# Altium schematic symbol library SparkFun-Resistors.SCHLIB: 269 symbols (part 3 of 3)
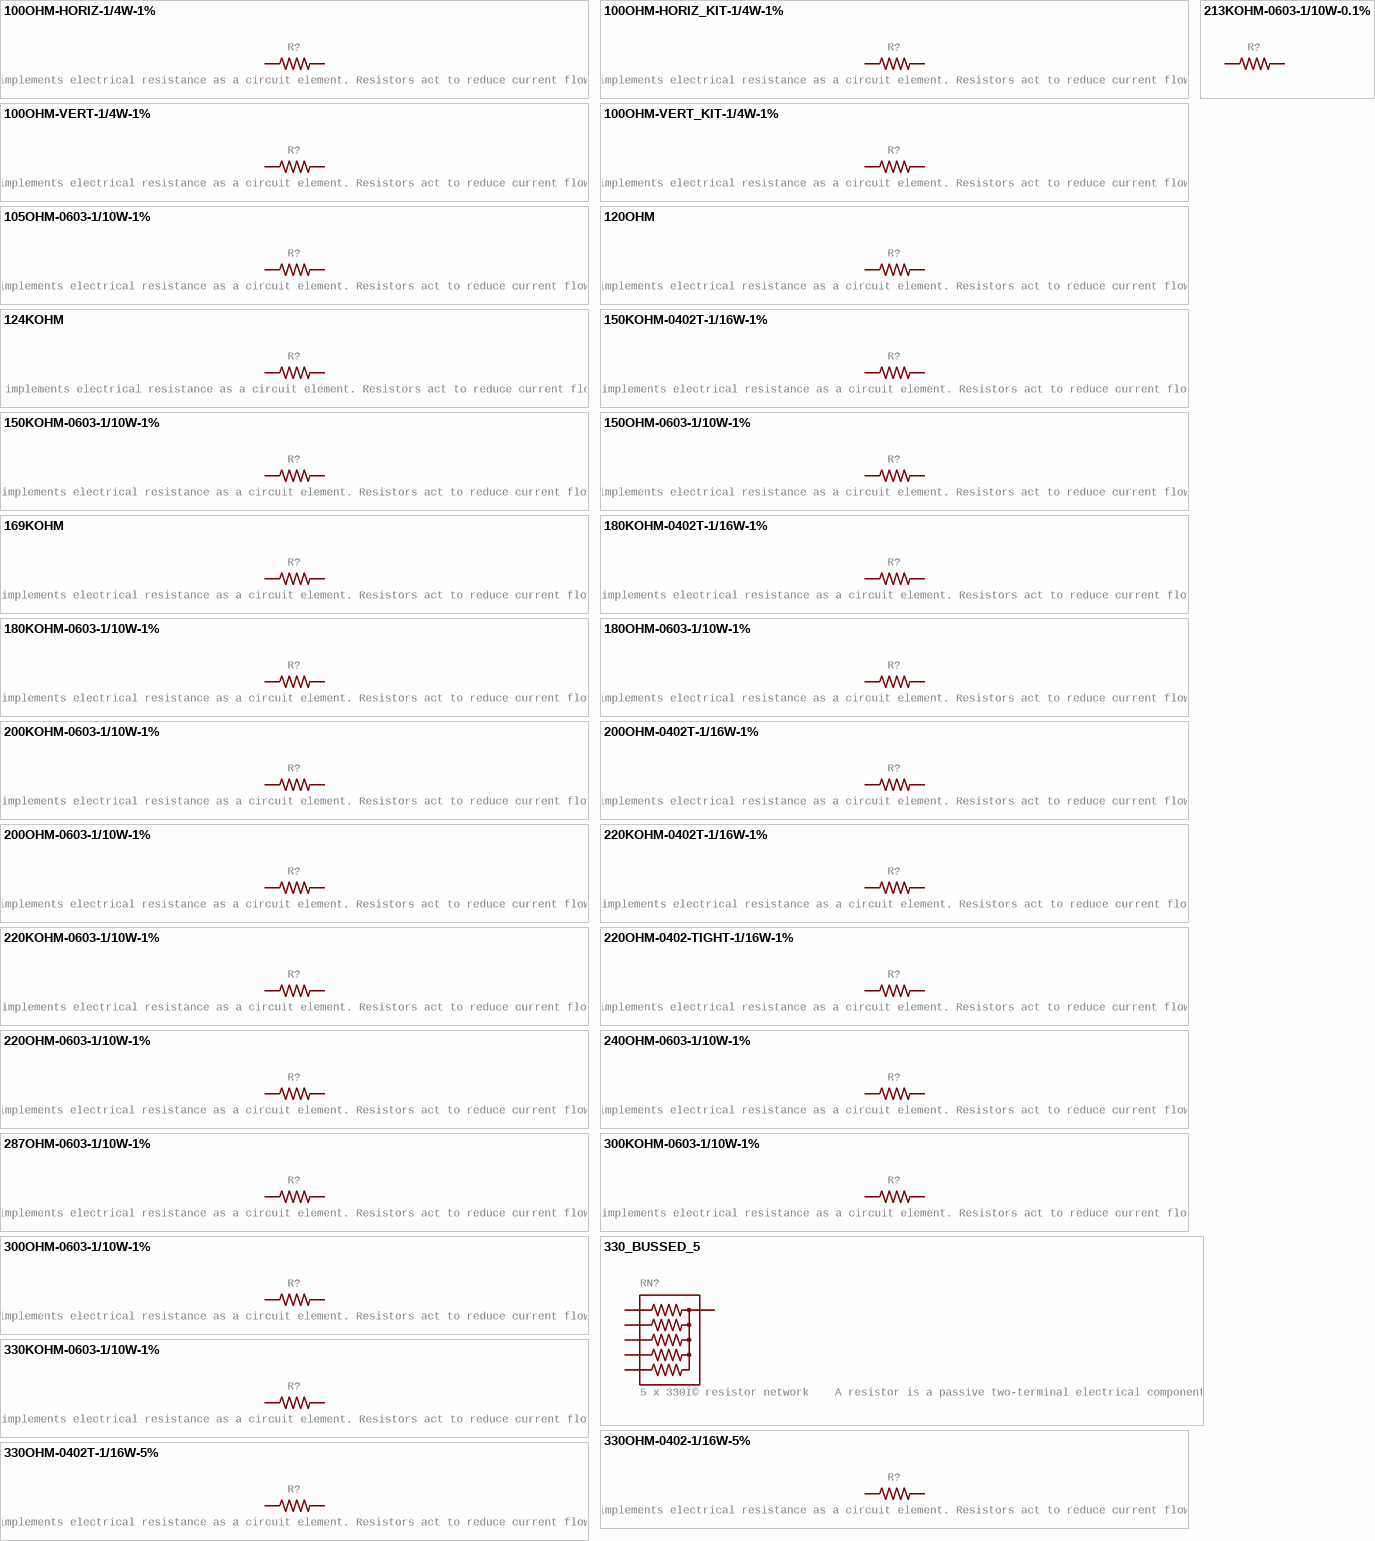
[diagram p12: symbols 100OHM-HORIZ-1/4W-1% to 330OHM-0402T-1/16W-5%]

## 330OHM-0402-1/16W-5%
designator R?, comment 330Î© resistor    A resistor is a passive two-terminal electrical component that implements electrical resistance as a circuit element. Resistors act to reduce current flow, and, at the same time, act to lower voltage levels within circuits. - Wikipedia
GateName_1: G$1; DeviceName: -0402-1/16W-5%; DeviceSetName: 330OHM; PROD_ID: RES-15407; SymbolName_1: RESISTOR; LibraryName: SparkFun-Resistors; Package: 0402
footprint 0402
pins: 1, 2

## 330OHM-0402T-1/16W-5%
designator R?, comment 330Î© resistor    A resistor is a passive two-terminal electrical component that implements electrical resistance as a circuit element. Resistors act to reduce current flow, and, at the same time, act to lower voltage levels within circuits. - Wikipedia
GateName_1: G$1; DeviceName: -0402T-1/16W-5%; DeviceSetName: 330OHM; PROD_ID: RES-15407; SymbolName_1: RESISTOR; LibraryName: SparkFun-Resistors; Package: 0402-TIGHT
footprint 0402-TIGHT
pins: 1, 2

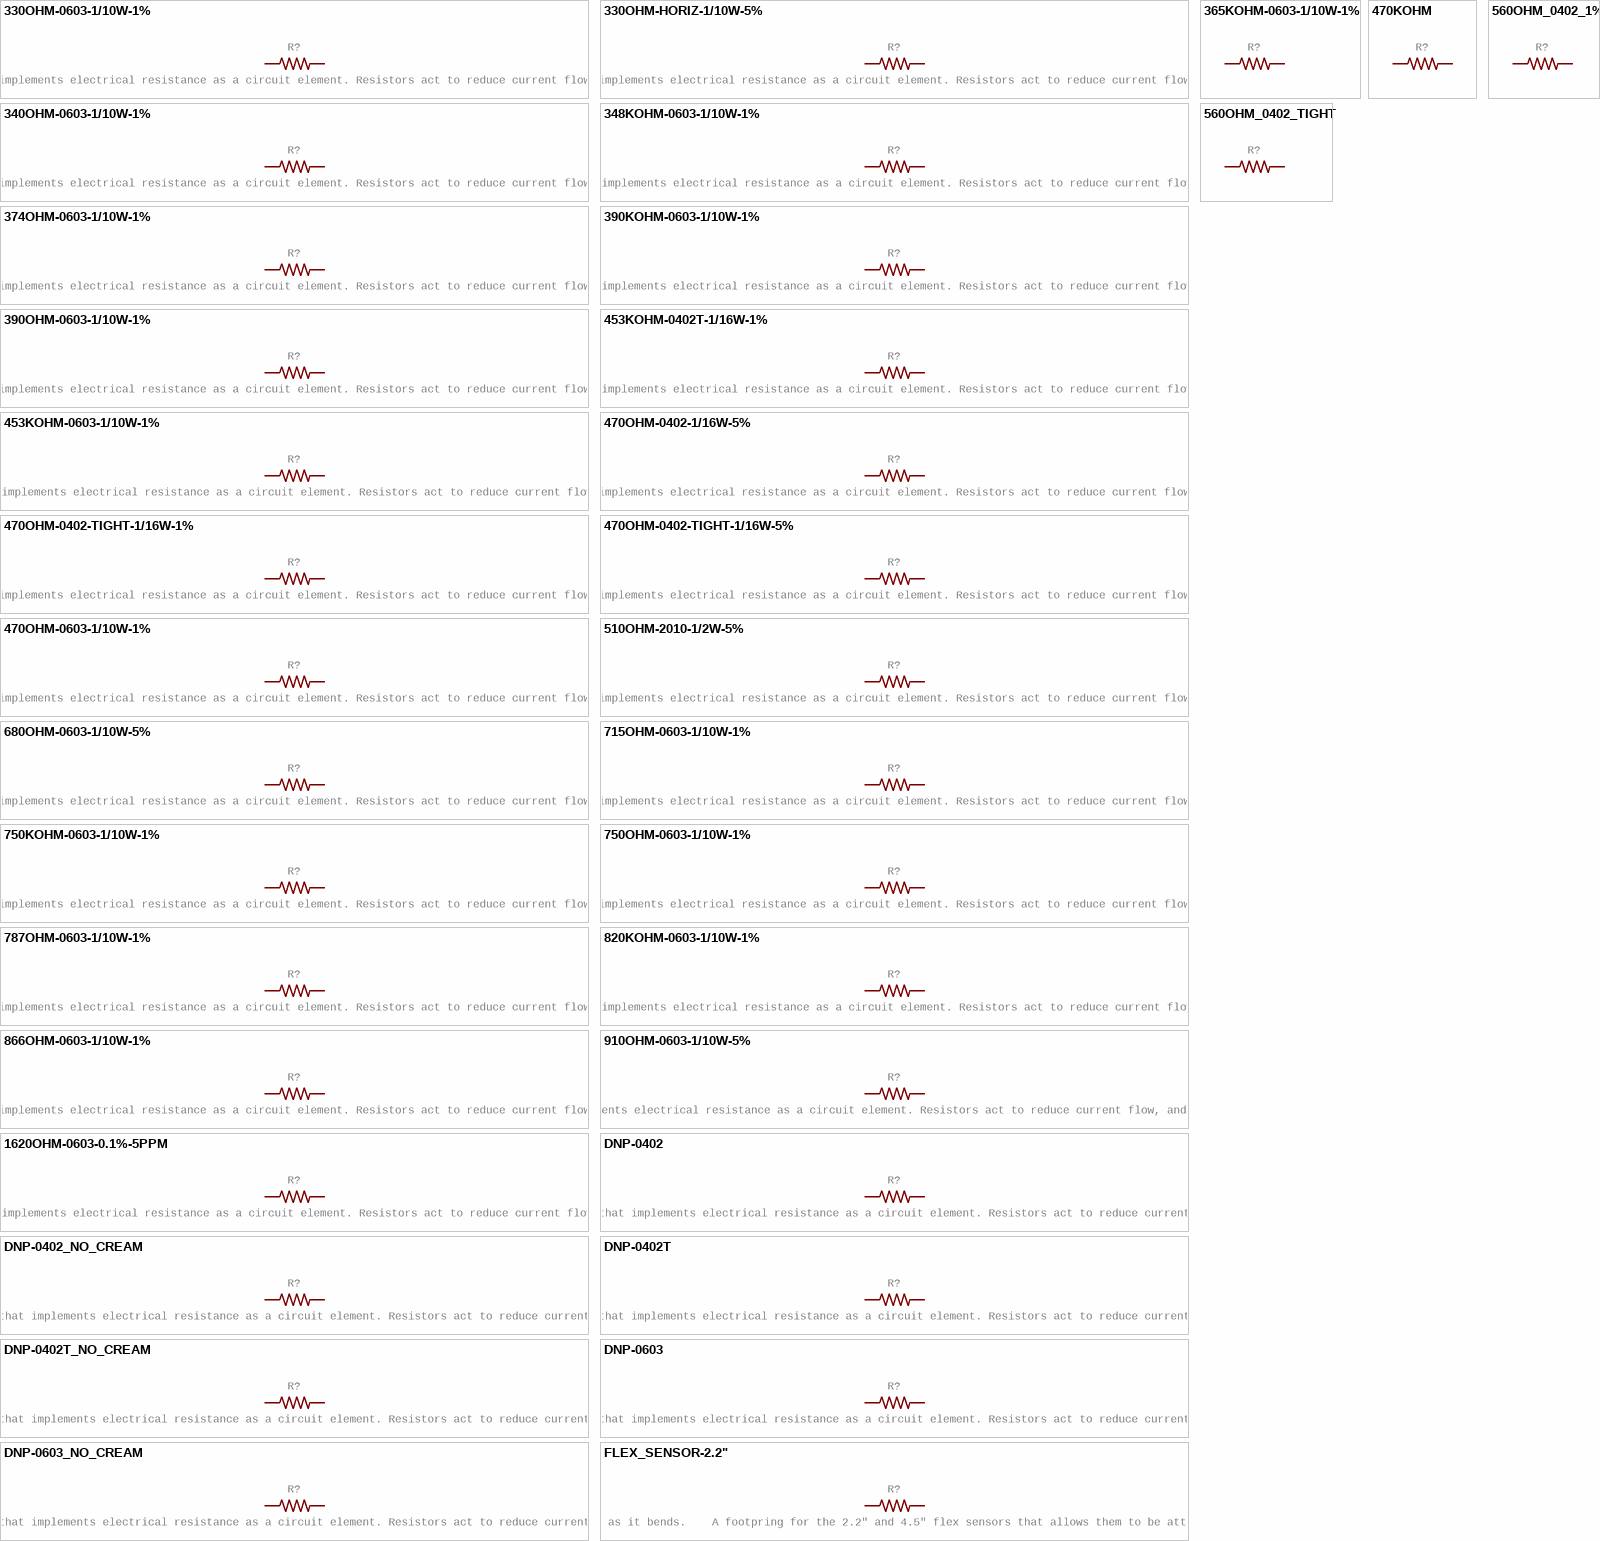
[diagram p7: symbols 330OHM-0603-1/10W-1% to FLEX_SENSOR-2.2"]

## 330OHM-0603-1/10W-1%
designator R?, comment 330Î© resistor    A resistor is a passive two-terminal electrical component that implements electrical resistance as a circuit element. Resistors act to reduce current flow, and, at the same time, act to lower voltage levels within circuits. - Wikipedia
GateName_1: G$1; DeviceName: -0603-1/10W-1%; DeviceSetName: 330OHM; PROD_ID: RES-00818; SymbolName_1: RESISTOR; LibraryName: SparkFun-Resistors; Package: 0603
footprint 0603
pins: 1, 2

## 330OHM-HORIZ-1/10W-5%
designator R?, comment 330Î© resistor    A resistor is a passive two-terminal electrical component that implements electrical resistance as a circuit element. Resistors act to reduce current flow, and, at the same time, act to lower voltage levels within circuits. - Wikipedia
GateName_1: G$1; DeviceName: -HORIZ-1/10W-5%; DeviceSetName: 330OHM; SymbolName_1: RESISTOR; LibraryName: SparkFun-Resistors; Package: AXIAL-0.3; PROD_ID: RES-8371
footprint AXIAL-0.3
pins: P$1 1, P$2 2

## 340OHM-0603-1/10W-1%
designator R?, comment 340Î© resistor    A resistor is a passive two-terminal electrical component that implements electrical resistance as a circuit element. Resistors act to reduce current flow, and, at the same time, act to lower voltage levels within circuits. - Wikipedia
GateName_1: G$1; DeviceName: -0603-1/10W-1%; DeviceSetName: 340OHM; PROD_ID: RES-12616; SymbolName_1: RESISTOR; LibraryName: SparkFun-Resistors; Package: 0603
footprint 0603
pins: 1, 2

## 348KOHM-0603-1/10W-1%
designator R?, comment 348kÎ© resistor    A resistor is a passive two-terminal electrical component that implements electrical resistance as a circuit element. Resistors act to reduce current flow, and, at the same time, act to lower voltage levels within circuits. - Wikipedia
GateName_1: G$1; DeviceName: -0603-1/10W-1%; DeviceSetName: 348KOHM; PROD_ID: RES-12533; SymbolName_1: RESISTOR; LibraryName: SparkFun-Resistors; Package: 0603
footprint 0603
pins: 1, 2

## 365KOHM-0603-1/10W-1%
designator R?
GateName_1: G$1; SymbolName_1: RESISTOR; DeviceName: -0603-1/10W-1%; DeviceSetName: 365KOHM; PROD_ID: RES-14262; LibraryName: SparkFun-Resistors; Package: 0603
footprint 0603
pins: 1, 2

## 374OHM-0603-1/10W-1%
designator R?, comment 374Î© resistor    A resistor is a passive two-terminal electrical component that implements electrical resistance as a circuit element. Resistors act to reduce current flow, and, at the same time, act to lower voltage levels within circuits. - Wikipedia
GateName_1: G$1; DeviceName: -0603-1/10W-1%; DeviceSetName: 374OHM; PROD_ID: RES-09992; SymbolName_1: RESISTOR; LibraryName: SparkFun-Resistors; Package: 0603
footprint 0603
pins: 1, 2

## 390KOHM-0603-1/10W-1%
designator R?, comment 390kÎ© resistor    A resistor is a passive two-terminal electrical component that implements electrical resistance as a circuit element. Resistors act to reduce current flow, and, at the same time, act to lower voltage levels within circuits. - Wikipedia
GateName_1: G$1; DeviceName: -0603-1/10W-1%; DeviceSetName: 390KOHM; PROD_ID: RES-12024; SymbolName_1: RESISTOR; LibraryName: SparkFun-Resistors; Package: 0603
footprint 0603
pins: 1, 2

## 390OHM-0603-1/10W-1%
designator R?, comment 390Î© resistor    A resistor is a passive two-terminal electrical component that implements electrical resistance as a circuit element. Resistors act to reduce current flow, and, at the same time, act to lower voltage levels within circuits. - Wikipedia
GateName_1: G$1; DeviceName: -0603-1/10W-1%; DeviceSetName: 390OHM; PROD_ID: RES-07864; SymbolName_1: RESISTOR; LibraryName: SparkFun-Resistors; Package: 0603
footprint 0603
pins: 1, 2

## 453KOHM-0402T-1/16W-1%
designator R?, comment 453kÎ© resistor    A resistor is a passive two-terminal electrical component that implements electrical resistance as a circuit element. Resistors act to reduce current flow, and, at the same time, act to lower voltage levels within circuits. - Wikipedia
GateName_1: G$1; DeviceName: -0402T-1/16W-1%; DeviceSetName: 453KOHM; PROD_ID: RES-15345; SymbolName_1: RESISTOR; LibraryName: SparkFun-Resistors; Package: 0402-TIGHT
footprint 0402-TIGHT
pins: 1, 2

## 453KOHM-0603-1/10W-1%
designator R?, comment 453kÎ© resistor    A resistor is a passive two-terminal electrical component that implements electrical resistance as a circuit element. Resistors act to reduce current flow, and, at the same time, act to lower voltage levels within circuits. - Wikipedia
GateName_1: G$1; DeviceName: -0603-1/10W-1%; DeviceSetName: 453KOHM; PROD_ID: RES-14466; SymbolName_1: RESISTOR; LibraryName: SparkFun-Resistors; Package: 0603
footprint 0603
pins: 1, 2

## 470KOHM
designator R?
GateName_1: G$1; SymbolName_1: RESISTOR; DeviceSetName: 470KOHM; PROD_ID: RES-16181; LibraryName: SparkFun-Resistors; Package: 0603
footprint 0603
pins: 1, 2

## 470OHM-0402-1/16W-5%
designator R?, comment 470Î© resistor    A resistor is a passive two-terminal electrical component that implements electrical resistance as a circuit element. Resistors act to reduce current flow, and, at the same time, act to lower voltage levels within circuits. - Wikipedia
GateName_1: G$1; DeviceName: -0402-1/16W-5%; DeviceSetName: 470OHM; PROD_ID: RES-13829; SymbolName_1: RESISTOR; LibraryName: SparkFun-Resistors; Package: 0402
footprint 0402
pins: 1, 2

## 470OHM-0402-TIGHT-1/16W-1%
designator R?, comment 470Î© resistor    A resistor is a passive two-terminal electrical component that implements electrical resistance as a circuit element. Resistors act to reduce current flow, and, at the same time, act to lower voltage levels within circuits. - Wikipedia
GateName_1: G$1; DeviceName: -0402-TIGHT-1/16W-1%; DeviceSetName: 470OHM; PROD_ID: RES-15584; SymbolName_1: RESISTOR; LibraryName: SparkFun-Resistors; Package: 0402-TIGHT
footprint 0402-TIGHT
pins: 1, 2

## 470OHM-0402-TIGHT-1/16W-5%
designator R?, comment 470Î© resistor    A resistor is a passive two-terminal electrical component that implements electrical resistance as a circuit element. Resistors act to reduce current flow, and, at the same time, act to lower voltage levels within circuits. - Wikipedia
GateName_1: G$1; DeviceName: -0402-TIGHT-1/16W-5%; DeviceSetName: 470OHM; PROD_ID: RES-13829; SymbolName_1: RESISTOR; LibraryName: SparkFun-Resistors; Package: 0402-TIGHT
footprint 0402-TIGHT
pins: 1, 2

## 470OHM-0603-1/10W-1%
designator R?, comment 470Î© resistor    A resistor is a passive two-terminal electrical component that implements electrical resistance as a circuit element. Resistors act to reduce current flow, and, at the same time, act to lower voltage levels within circuits. - Wikipedia
GateName_1: G$1; DeviceName: -0603-1/10W-1%; DeviceSetName: 470OHM; PROD_ID: RES-07869; SymbolName_1: RESISTOR; LibraryName: SparkFun-Resistors; Package: 0603
footprint 0603
pins: 1, 2

## 510OHM-2010-1/2W-5%
designator R?, comment 510Î© resistor    A resistor is a passive two-terminal electrical component that implements electrical resistance as a circuit element. Resistors act to reduce current flow, and, at the same time, act to lower voltage levels within circuits. - Wikipedia
GateName_1: G$1; DeviceName: -2010-1/2W-5%; DeviceSetName: 510OHM; PROD_ID: RES-08717; SymbolName_1: RESISTOR; LibraryName: SparkFun-Resistors; Package: 2010
footprint 2010
pins: 1, 2

## 560OHM_0402_1%
designator R?
GateName_1: G$1; SymbolName_1: RESISTOR; DeviceName: _0402_1%; DeviceSetName: 560OHM; PROD_ID: RES-13766; LibraryName: SparkFun-Resistors; Package: 0402
footprint 0402
pins: 1, 2

## 560OHM_0402_TIGHT
designator R?
GateName_1: G$1; SymbolName_1: RESISTOR; DeviceName: _0402_TIGHT; DeviceSetName: 560OHM; PROD_ID: RES-13766; LibraryName: SparkFun-Resistors; Package: 0402-TIGHT
footprint 0402-TIGHT
pins: 1, 2

## 680OHM-0603-1/10W-5%
designator R?, comment 680Î© resistor    A resistor is a passive two-terminal electrical component that implements electrical resistance as a circuit element. Resistors act to reduce current flow, and, at the same time, act to lower voltage levels within circuits. - Wikipedia
GateName_1: G$1; DeviceName: -0603-1/10W-5%; DeviceSetName: 680OHM; PROD_ID: RES-09333; SymbolName_1: RESISTOR; LibraryName: SparkFun-Resistors; Package: 0603
footprint 0603
pins: 1, 2

## 715OHM-0603-1/10W-1%
designator R?, comment 715Î© resistor    A resistor is a passive two-terminal electrical component that implements electrical resistance as a circuit element. Resistors act to reduce current flow, and, at the same time, act to lower voltage levels within circuits. - Wikipedia
GateName_1: G$1; DeviceName: -0603-1/10W-1%; DeviceSetName: 715OHM; PROD_ID: RES-07850; SymbolName_1: RESISTOR; LibraryName: SparkFun-Resistors; Package: 0603
footprint 0603
pins: 1, 2

## 750KOHM-0603-1/10W-1%
designator R?, comment 750Î© resistor    A resistor is a passive two-terminal electrical component that implements electrical resistance as a circuit element. Resistors act to reduce current flow, and, at the same time, act to lower voltage levels within circuits. - Wikipedia
GateName_1: G$1; DeviceName: -0603-1/10W-1%; DeviceSetName: 750KOHM; PROD_ID: RES-13768; SymbolName_1: RESISTOR; LibraryName: SparkFun-Resistors; Package: 0603
footprint 0603
pins: 1, 2

## 750OHM-0603-1/10W-1%
designator R?, comment 750Î© resistor    A resistor is a passive two-terminal electrical component that implements electrical resistance as a circuit element. Resistors act to reduce current flow, and, at the same time, act to lower voltage levels within circuits. - Wikipedia
GateName_1: G$1; DeviceName: -0603-1/10W-1%; DeviceSetName: 750OHM; PROD_ID: RES-07824; SymbolName_1: RESISTOR; LibraryName: SparkFun-Resistors; Package: 0603
footprint 0603
pins: 1, 2

## 787OHM-0603-1/10W-1%
designator R?, comment 787Î© resistor    A resistor is a passive two-terminal electrical component that implements electrical resistance as a circuit element. Resistors act to reduce current flow, and, at the same time, act to lower voltage levels within circuits. - Wikipedia
GateName_1: G$1; DeviceName: -0603-1/10W-1%; DeviceSetName: 787OHM; PROD_ID: RES-11228; SymbolName_1: RESISTOR; LibraryName: SparkFun-Resistors; Package: 0603
footprint 0603
pins: 1, 2

## 820KOHM-0603-1/10W-1%
designator R?, comment 820kÎ© resistor    A resistor is a passive two-terminal electrical component that implements electrical resistance as a circuit element. Resistors act to reduce current flow, and, at the same time, act to lower voltage levels within circuits. - Wikipedia
GateName_1: G$1; DeviceName: -0603-1/10W-1%; DeviceSetName: 820KOHM; PROD_ID: RES-13247; SymbolName_1: RESISTOR; LibraryName: SparkFun-Resistors; Package: 0603
footprint 0603
pins: 1, 2

## 866OHM-0603-1/10W-1%
designator R?, comment 866Î© resistor    A resistor is a passive two-terminal electrical component that implements electrical resistance as a circuit element. Resistors act to reduce current flow, and, at the same time, act to lower voltage levels within circuits. - Wikipedia
GateName_1: G$1; DeviceName: -0603-1/10W-1%; DeviceSetName: 866OHM; PROD_ID: RES-09991; SymbolName_1: RESISTOR; LibraryName: SparkFun-Resistors; Package: 0603
footprint 0603
pins: 1, 2

## 910OHM-0603-1/10W-5%
designator R?, comment 910 Ohm Resistor    A resistor is a passive two-terminal electrical component that implements electrical resistance as a circuit element. Resistors act to reduce current flow, and, at the same time, act to lower voltage levels within circuits. - Wikipedia Digikey Link
GateName_1: G$1; DeviceName: -0603-1/10W-5%; DeviceSetName: 910OHM; PROD_ID: RES-13860; SymbolName_1: RESISTOR; LibraryName: SparkFun-Resistors; Package: 0603
footprint 0603
pins: 1, 2

## 1620OHM-0603-0.1%-5PPM
designator R?, comment 1620Î© resistor    A resistor is a passive two-terminal electrical component that implements electrical resistance as a circuit element. Resistors act to reduce current flow, and, at the same time, act to lower voltage levels within circuits. - Wikipedia
GateName_1: G$1; DeviceName: -0603-0.1%-5PPM; DeviceSetName: 1620OHM; PROD_ID: RES-15120; SymbolName_1: RESISTOR; LibraryName: SparkFun-Resistors; Package: 0603
footprint 0603
pins: 1, 2

## DNP-0402
designator R?, comment Do-Not-Populate resistor    A resistor is a passive two-terminal electrical component that implements electrical resistance as a circuit element. Resistors act to reduce current flow, and, at the same time, act to lower voltage levels within circuits. - Wikipedia
GateName_1: G$1; DeviceName: -0402; DeviceSetName: DNP; SymbolName_1: RESISTOR; LibraryName: SparkFun-Resistors; Package: 0402
footprint 0402
pins: 1, 2

## DNP-0402_NO_CREAM
designator R?, comment Do-Not-Populate resistor    A resistor is a passive two-terminal electrical component that implements electrical resistance as a circuit element. Resistors act to reduce current flow, and, at the same time, act to lower voltage levels within circuits. - Wikipedia
GateName_1: G$1; DeviceName: -0402_NO_CREAM; DeviceSetName: DNP; SymbolName_1: RESISTOR; LibraryName: SparkFun-Resistors; Package: 0402_NO_CREAM
footprint 0402_NO_CREAM
pins: 1, 2

## DNP-0402T
designator R?, comment Do-Not-Populate resistor    A resistor is a passive two-terminal electrical component that implements electrical resistance as a circuit element. Resistors act to reduce current flow, and, at the same time, act to lower voltage levels within circuits. - Wikipedia
GateName_1: G$1; DeviceName: -0402T; DeviceSetName: DNP; SymbolName_1: RESISTOR; LibraryName: SparkFun-Resistors; Package: 0402-TIGHT
footprint 0402-TIGHT
pins: 1, 2

## DNP-0402T_NO_CREAM
designator R?, comment Do-Not-Populate resistor    A resistor is a passive two-terminal electrical component that implements electrical resistance as a circuit element. Resistors act to reduce current flow, and, at the same time, act to lower voltage levels within circuits. - Wikipedia
GateName_1: G$1; DeviceName: -0402T_NO_CREAM; DeviceSetName: DNP; SymbolName_1: RESISTOR; LibraryName: SparkFun-Resistors; Package: 0402-TIGHT_NO_CREAM
footprint 0402-TIGHT_NO_CREAM
pins: 1, 2

## DNP-0603
designator R?, comment Do-Not-Populate resistor    A resistor is a passive two-terminal electrical component that implements electrical resistance as a circuit element. Resistors act to reduce current flow, and, at the same time, act to lower voltage levels within circuits. - Wikipedia
GateName_1: G$1; DeviceName: -0603; DeviceSetName: DNP; SymbolName_1: RESISTOR; LibraryName: SparkFun-Resistors; Package: 0603
footprint 0603
pins: 1, 2

## DNP-0603_NO_CREAM
designator R?, comment Do-Not-Populate resistor    A resistor is a passive two-terminal electrical component that implements electrical resistance as a circuit element. Resistors act to reduce current flow, and, at the same time, act to lower voltage levels within circuits. - Wikipedia
GateName_1: G$1; DeviceName: -0603_NO_CREAM; DeviceSetName: DNP; SymbolName_1: RESISTOR; LibraryName: SparkFun-Resistors; Package: 0603_NO_CREAM
footprint 0603_NO_CREAM
pins: 1, 2

## FLEX_SENSOR-2.2"
designator R?, comment Spectra Symbol Flex Sensor (2.2", 4.5") - A flexible resistor that changes its resistance as it bends.    A footpring for the 2.2" and 4.5" flex sensors that allows them to be attached to PCB for more durabiility   SparkFun Products: 4.5" Flex Sensor  2.2" Flex Sensor
GateName_1: G$1; DeviceName: -2.2"; DeviceSetName: FLEX_SENSOR; PROD_ID: COMP-10225; SymbolName_1: RESISTOR; LibraryName: SparkFun-Resistors; Package: FLEX_SENSOR
footprint FLEX_SENSOR
pins: P$1 1, P$2 2

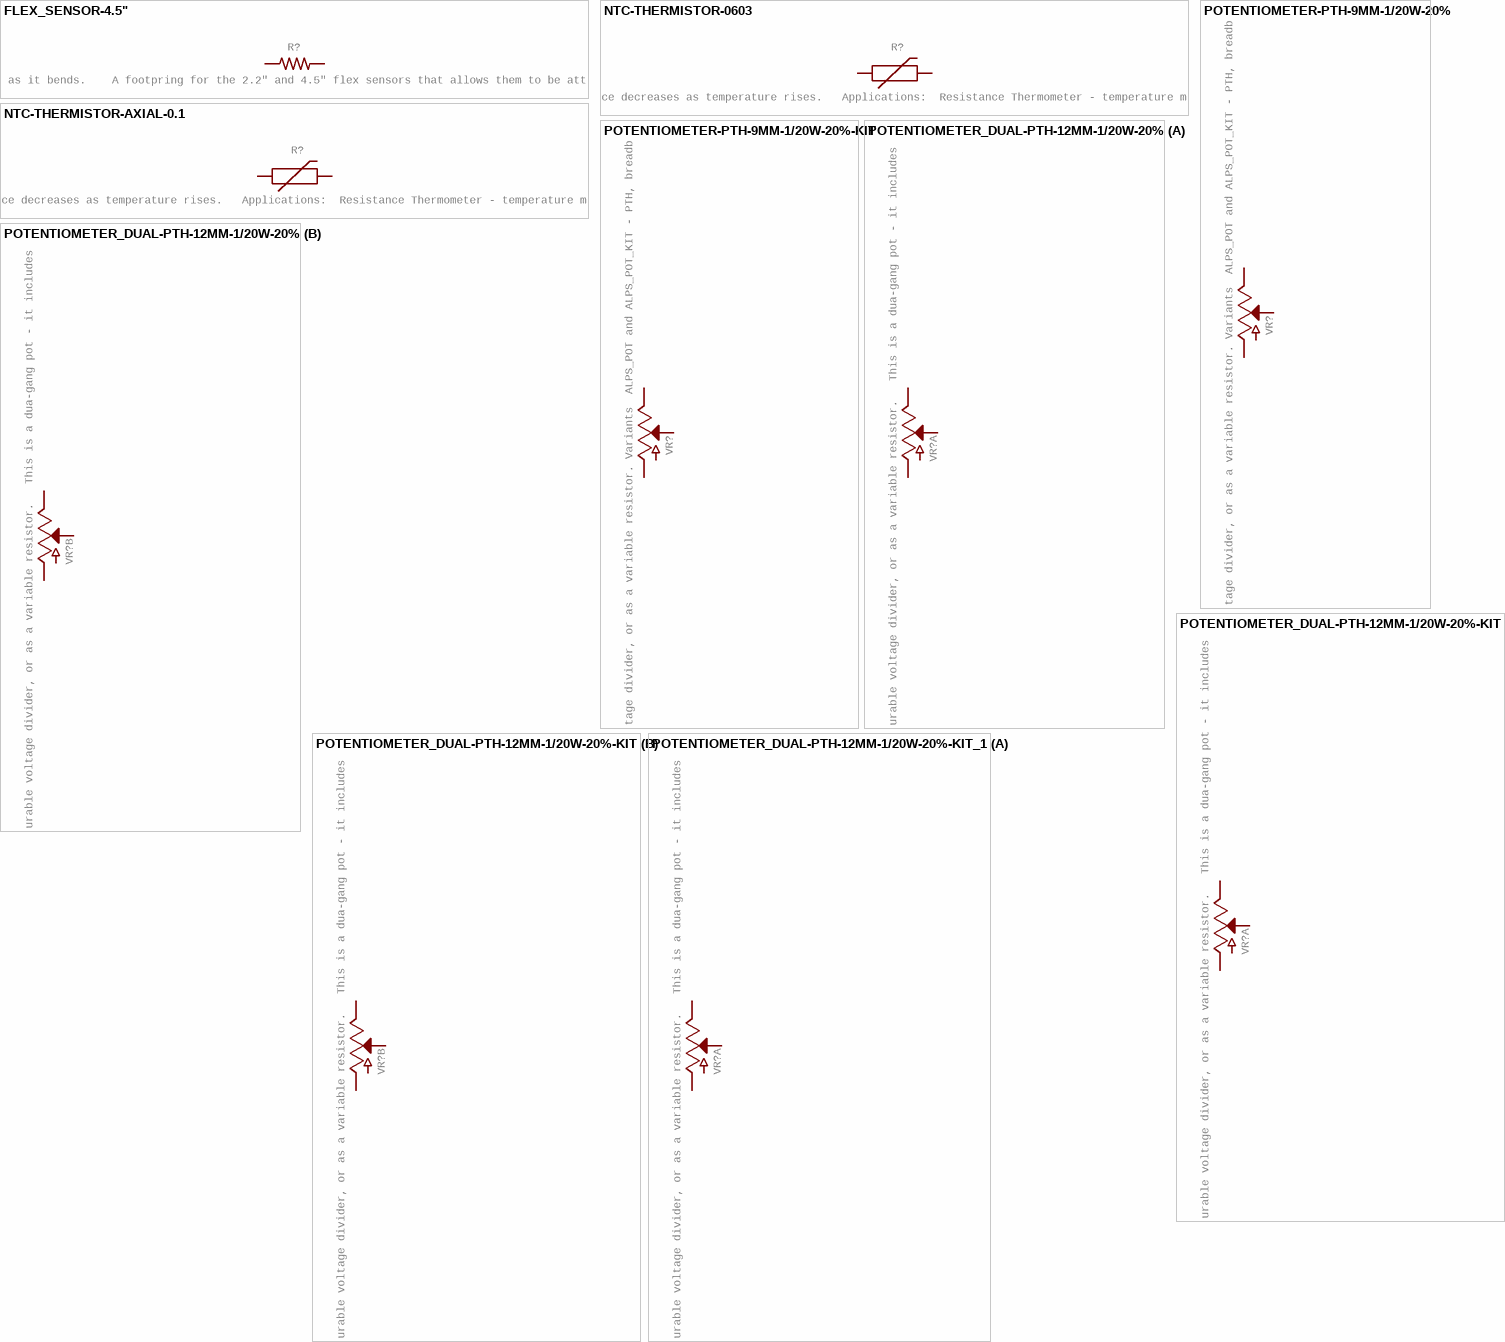
[diagram p8: symbols FLEX_SENSOR-4.5" to POTENTIOMETER_DUAL-PTH-12MM-1/20W-20%-KIT_1]

## FLEX_SENSOR-4.5"
designator R?, comment Spectra Symbol Flex Sensor (2.2", 4.5") - A flexible resistor that changes its resistance as it bends.    A footpring for the 2.2" and 4.5" flex sensors that allows them to be attached to PCB for more durabiility   SparkFun Products: 4.5" Flex Sensor  2.2" Flex Sensor
GateName_1: G$1; DeviceName: -4.5"; DeviceSetName: FLEX_SENSOR; PROD_ID: COMP-13078; SymbolName_1: RESISTOR; LibraryName: SparkFun-Resistors; Package: FLEX_SENSOR
footprint FLEX_SENSOR
pins: P$1 1, P$2 2

## NTC-THERMISTOR-0603
designator R?, comment NTC Thermistor    An NTC thermistor's resistance decreases as temperature rises.   Applications:  Resistance Thermometer - temperature monitoring  Inrush current limiter  Heat source
GateName_1: G$1; SymbolName_1: NTC-THERMISTOR; DeviceName: -0603; PROD_ID: RES-13608; LibraryName: SparkFun-Resistors; DeviceSetName: NTC-THERMISTOR; Package: 0603
footprint 0603
pins: 1 (io), 2 (io)

## NTC-THERMISTOR-AXIAL-0.1
designator R?, comment NTC Thermistor    An NTC thermistor's resistance decreases as temperature rises.   Applications:  Resistance Thermometer - temperature monitoring  Inrush current limiter  Heat source
GateName_1: G$1; SymbolName_1: NTC-THERMISTOR; DeviceName: -AXIAL-0.1; SF_ID: SEN-00250; LibraryName: SparkFun-Resistors; DeviceSetName: NTC-THERMISTOR; Package: AXIAL-0.1
footprint AXIAL-0.1
pins: P$1 1 (io), P$2 2 (io)

## POTENTIOMETER-PTH-9MM-1/20W-20%
designator VR?, comment Potentiometer (Pot)    Three-terminal potentiometers, with an adjustable wiper and two adjustable resistors. A pot can be used to create a configurable voltage divider, or as a variable resistor. Variants  ALPS_POT and ALPS_POT_KIT - PTH, breadboard compatible, 9mm square pots  Rotary Potentiometer - Linear (10k ohm) (COM-09288)  The KIT variant exposes copper on only one side of the PTH pad, so the part can only be assembled on one side of the PCB. Useful for beginner soldering kits.
GateName_1: G$1; DeviceName: -PTH-9MM-1/20W-20%; PROD_ID: RES-09177; SymbolName_1: POTENTIOMETER; LibraryName: SparkFun-Resistors; DeviceSetName: POTENTIOMETER; Package: POT-PTH-ALPS; SF_SKU: COM-09288
footprint POT-PTH-ALPS
pins: P$1 E, P$2 S, P$3 A

## POTENTIOMETER-PTH-9MM-1/20W-20%-KIT
designator VR?, comment Potentiometer (Pot)    Three-terminal potentiometers, with an adjustable wiper and two adjustable resistors. A pot can be used to create a configurable voltage divider, or as a variable resistor. Variants  ALPS_POT and ALPS_POT_KIT - PTH, breadboard compatible, 9mm square pots  Rotary Potentiometer - Linear (10k ohm) (COM-09288)  The KIT variant exposes copper on only one side of the PTH pad, so the part can only be assembled on one side of the PCB. Useful for beginner soldering kits.
GateName_1: G$1; DeviceName: -PTH-9MM-1/20W-20%-KIT; PROD_ID: RES-09177; SymbolName_1: POTENTIOMETER; LibraryName: SparkFun-Resistors; DeviceSetName: POTENTIOMETER; Package: POT-PTH-ALPS-KIT; SF_SKU: COM-09288
footprint POT-PTH-ALPS-KIT
pins: P$1 E, P$2 S, P$3 A

## POTENTIOMETER_DUAL-PTH-12MM-1/20W-20%
designator VR?, comment Potentiometer (Pot) Dual-Gang    Three-terminal potentiometers, with an adjustable wiper and two adjustable resistors. A pot can be used to create a configurable voltage divider, or as a variable resistor.   This is a dua-gang pot - it includes two separate circuits, both controlled by one wiper. Variants  PTH-12MM and PTH-12MM-KIT - 12mm Square, PTH Vertical Pots  Used on the SparkFun SparkPunk Sound Kit (filter control)  The KIT variant exposes copper on only one side of the PTH pad, so the part can only be assembled on one side of the PCB. Useful for beginner soldering kits.
GateName_1: G$1; GateName_2: G$2; DeviceName: -PTH-12MM-1/20W-20%; DeviceSetName: POTENTIOMETER_DUAL; PROD_ID: RES-11897; SymbolName_1: POTENTIOMETER; SymbolName_2: POTENTIOMETER; LibraryName: SparkFun-Resistors; Package: POT-DUAL-PTH-PANASONIC-VERT
footprint POT-DUAL-PTH-PANASONIC-VERT
part A pins: A1 E, A2 S, A3 A
part B pins: B1 E, B2 S, B3 A

## POTENTIOMETER_DUAL-PTH-12MM-1/20W-20%-KIT
designator VR?, comment Potentiometer (Pot) Dual-Gang    Three-terminal potentiometers, with an adjustable wiper and two adjustable resistors. A pot can be used to create a configurable voltage divider, or as a variable resistor.   This is a dua-gang pot - it includes two separate circuits, both controlled by one wiper. Variants  PTH-12MM and PTH-12MM-KIT - 12mm Square, PTH Vertical Pots  Used on the SparkFun SparkPunk Sound Kit (filter control)  The KIT variant exposes copper on only one side of the PTH pad, so the part can only be assembled on one side of the PCB. Useful for beginner soldering kits.
GateName_1: G$1; GateName_2: G$2; DeviceName: -PTH-12MM-1/20W-20%-KIT; DeviceSetName: POTENTIOMETER_DUAL; PROD_ID: RES-11897; SymbolName_1: POTENTIOMETER; SymbolName_2: POTENTIOMETER; LibraryName: SparkFun-Resistors; Package: POT-DUAL-PTH-PANASONIC-VERT-KIT
footprint POT-DUAL-PTH-PANASONIC-VERT-KIT
part A pins: A1 E, A2 S, A3 A
part B pins: B1 E, B2 S, B3 A

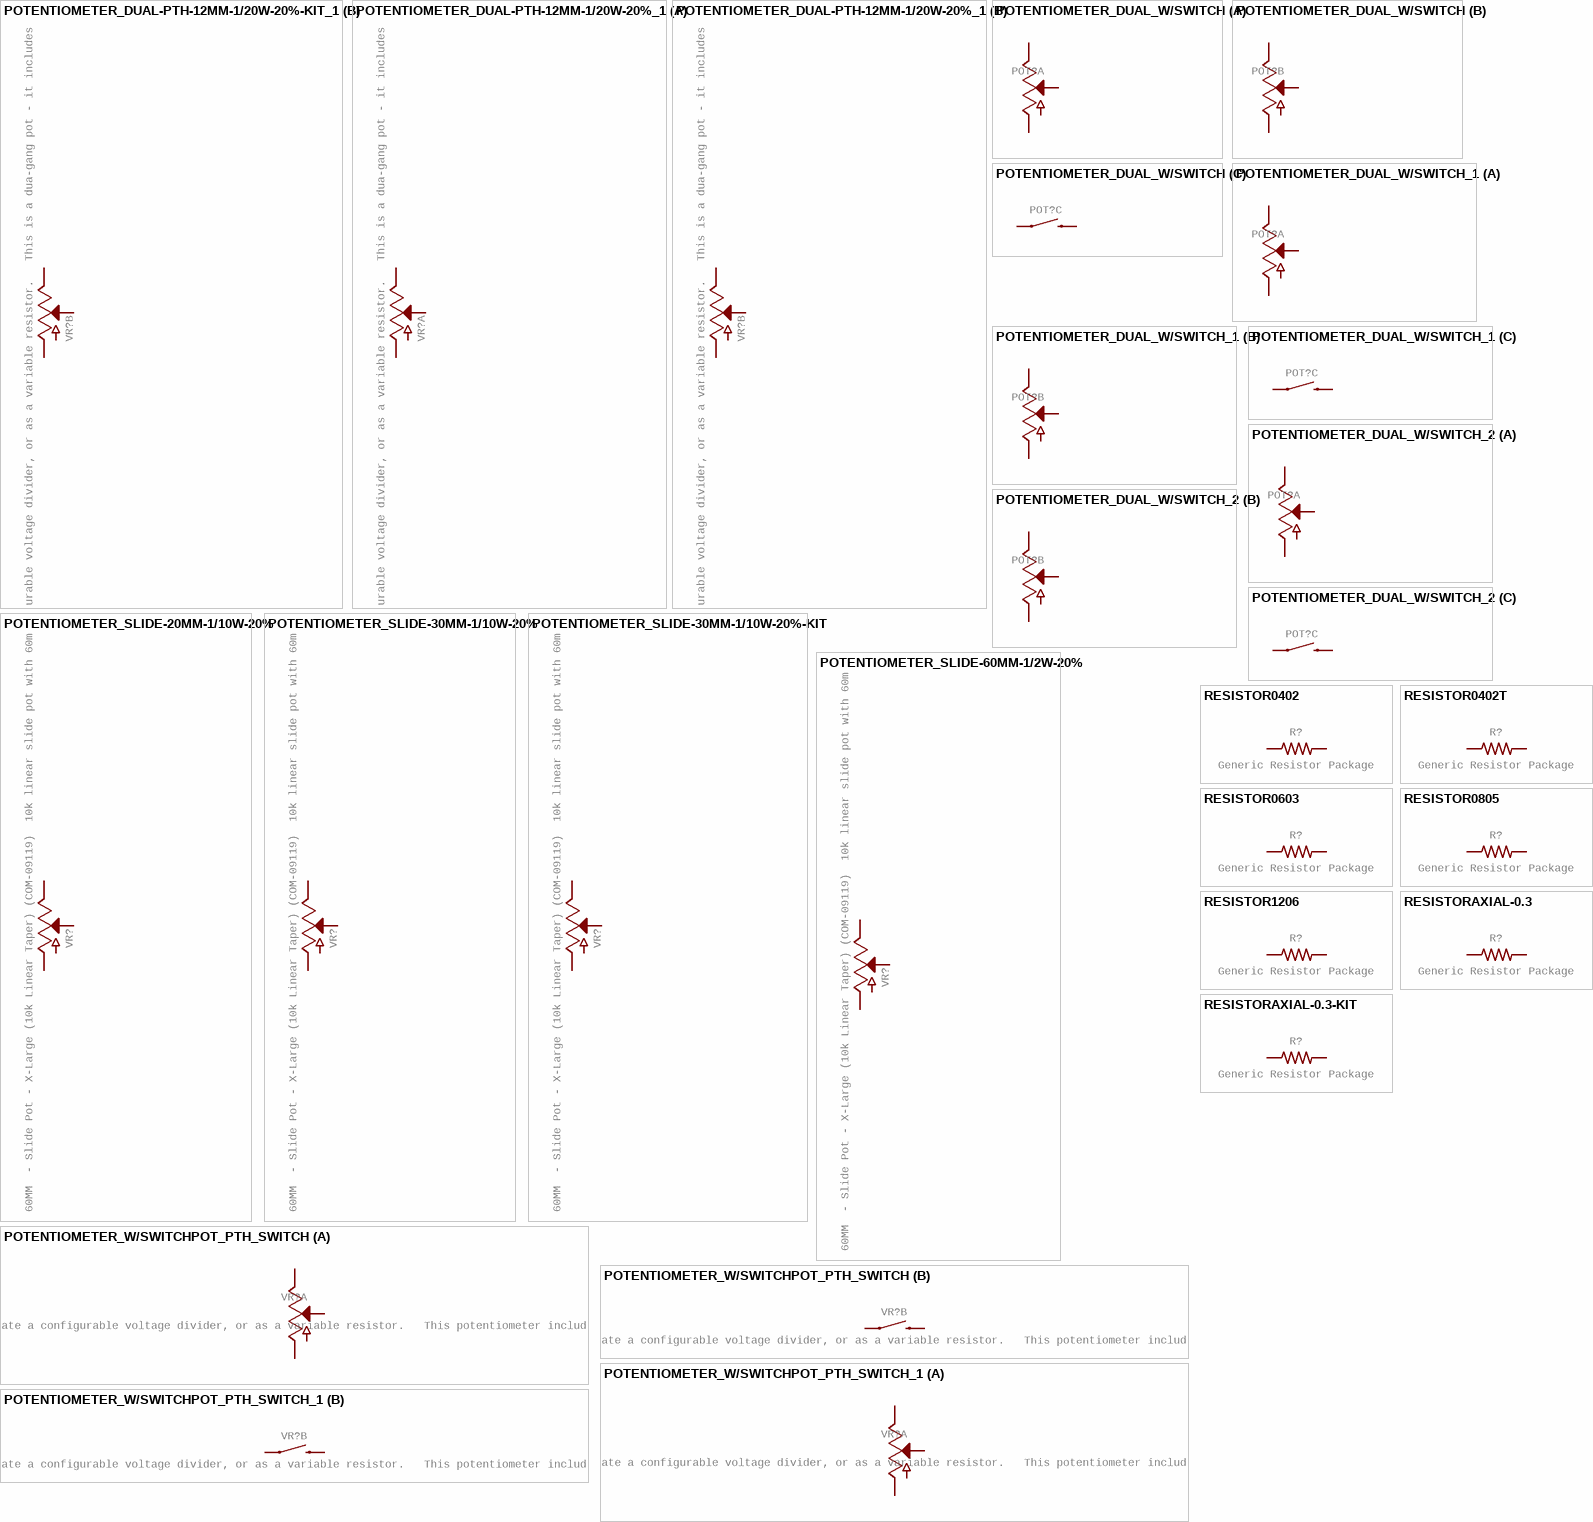
[diagram p9: symbols POTENTIOMETER_DUAL-PTH-12MM-1/20W-20%-KIT_1 to RESISTORAXIAL-0.3-KIT]

## POTENTIOMETER_DUAL-PTH-12MM-1/20W-20%-KIT_1
designator VR?, comment Potentiometer (Pot) Dual-Gang    Three-terminal potentiometers, with an adjustable wiper and two adjustable resistors. A pot can be used to create a configurable voltage divider, or as a variable resistor.   This is a dua-gang pot - it includes two separate circuits, both controlled by one wiper. Variants  PTH-12MM and PTH-12MM-KIT - 12mm Square, PTH Vertical Pots  Used on the SparkFun SparkPunk Sound Kit (filter control)  The KIT variant exposes copper on only one side of the PTH pad, so the part can only be assembled on one side of the PCB. Useful for beginner soldering kits.
GateName_1: G$1; GateName_2: G$2; DeviceName: -PTH-12MM-1/20W-20%-KIT; DeviceSetName: POTENTIOMETER_DUAL; PROD_ID: RES-11897; SymbolName_1: POTENTIOMETER; SymbolName_2: POTENTIOMETER; LibraryName: SparkFun-Resistors; Package: POT-DUAL-PTH-PANASONIC-VERT-KIT
footprint POT-DUAL-PTH-PANASONIC-VERT-KIT
part A pins: A1 E, A2 S, A3 A
part B pins: B1 E, B2 S, B3 A

## POTENTIOMETER_DUAL-PTH-12MM-1/20W-20%_1
designator VR?, comment Potentiometer (Pot) Dual-Gang    Three-terminal potentiometers, with an adjustable wiper and two adjustable resistors. A pot can be used to create a configurable voltage divider, or as a variable resistor.   This is a dua-gang pot - it includes two separate circuits, both controlled by one wiper. Variants  PTH-12MM and PTH-12MM-KIT - 12mm Square, PTH Vertical Pots  Used on the SparkFun SparkPunk Sound Kit (filter control)  The KIT variant exposes copper on only one side of the PTH pad, so the part can only be assembled on one side of the PCB. Useful for beginner soldering kits.
GateName_1: G$1; GateName_2: G$2; DeviceName: -PTH-12MM-1/20W-20%; DeviceSetName: POTENTIOMETER_DUAL; PROD_ID: RES-11897; SymbolName_1: POTENTIOMETER; SymbolName_2: POTENTIOMETER; LibraryName: SparkFun-Resistors; Package: POT-DUAL-PTH-PANASONIC-VERT
footprint POT-DUAL-PTH-PANASONIC-VERT
part A pins: A1 E, A2 S, A3 A
part B pins: B1 E, B2 S, B3 A

## POTENTIOMETER_DUAL_W/SWITCH
designator POT?
GateName_1: G2; SymbolName_1: POTENTIOMETER; GateName_2: G1; GateName_3: G3; SymbolName_3: SWITCH-MOMENTARY; DeviceSetName: POTENTIOMETER_DUAL_W/SWITCH; PROD_ID: RES-13814; SymbolName_2: POTENTIOMETER; LibraryName: SparkFun-Resistors; Package: POT-DUAL-SWITCH-PTH
footprint POT-DUAL-SWITCH-PTH
part A pins: B1 A, B2 S, B3 E
part B pins: A1 A, A2 S, A3 E
part C pins: SW1 1, SW2 2

## POTENTIOMETER_DUAL_W/SWITCH_1
designator POT?
GateName_1: G2; SymbolName_1: POTENTIOMETER; GateName_2: G1; GateName_3: G3; SymbolName_3: SWITCH-MOMENTARY; DeviceSetName: POTENTIOMETER_DUAL_W/SWITCH; PROD_ID: RES-13814; SymbolName_2: POTENTIOMETER; LibraryName: SparkFun-Resistors; Package: POT-DUAL-SWITCH-PTH
footprint POT-DUAL-SWITCH-PTH
part A pins: B1 A, B2 S, B3 E
part B pins: A1 A, A2 S, A3 E
part C pins: SW1 1, SW2 2

## POTENTIOMETER_DUAL_W/SWITCH_2
designator POT?
GateName_1: G2; SymbolName_1: POTENTIOMETER; GateName_2: G1; GateName_3: G3; SymbolName_3: SWITCH-MOMENTARY; DeviceSetName: POTENTIOMETER_DUAL_W/SWITCH; PROD_ID: RES-13814; SymbolName_2: POTENTIOMETER; LibraryName: SparkFun-Resistors; Package: POT-DUAL-SWITCH-PTH
footprint POT-DUAL-SWITCH-PTH
part A pins: B1 A, B2 S, B3 E
part B pins: A1 A, A2 S, A3 E
part C pins: SW1 1, SW2 2

## POTENTIOMETER_SLIDE-20MM-1/10W-20%
designator VR?, comment Slide Potentiometer    Slide-type potentiometers - pots that are adjusted by sliding a wiper up or down. Commonly found en-masse on sound boards. Variants  60MM  - Slide Pot - X-Large (10k Linear Taper) (COM-09119)  10k linear slide pot with 60mm travel.  Datasheet     30MM, 30MM-KIT - Slide Pot - Medium (10k Linear Taper) (COM-11621)  10k linear slide pot with 30mm travel.  Datasheet (C3031N-1A2-B10K-GP)  "KIT" variant, intended for soldering kits, has tStop removed from pads so the component can only be stuffed on one side of the board.     20MM - Slide Pot - Small (10k Linear Taper) (COM-11620)  10k linear slide pot with 20mm travel.  Datasheet (C2031N-1A2-B10K-GP)
GateName_1: G$1; DeviceName: -20MM-1/10W-20%; DeviceSetName: POTENTIOMETER_SLIDE; PROD_ID: RES-11924; SymbolName_1: POTENTIOMETER; LibraryName: SparkFun-Resistors; Package: SLIDER-SMALL; SF_SKU: COM-11620
footprint SLIDER-SMALL
pins: BOTTOM A, TOP E, WIPER S

## POTENTIOMETER_SLIDE-30MM-1/10W-20%
designator VR?, comment Slide Potentiometer    Slide-type potentiometers - pots that are adjusted by sliding a wiper up or down. Commonly found en-masse on sound boards. Variants  60MM  - Slide Pot - X-Large (10k Linear Taper) (COM-09119)  10k linear slide pot with 60mm travel.  Datasheet     30MM, 30MM-KIT - Slide Pot - Medium (10k Linear Taper) (COM-11621)  10k linear slide pot with 30mm travel.  Datasheet (C3031N-1A2-B10K-GP)  "KIT" variant, intended for soldering kits, has tStop removed from pads so the component can only be stuffed on one side of the board.     20MM - Slide Pot - Small (10k Linear Taper) (COM-11620)  10k linear slide pot with 20mm travel.  Datasheet (C2031N-1A2-B10K-GP)
GateName_1: G$1; DeviceName: -30MM-1/10W-20%; DeviceSetName: POTENTIOMETER_SLIDE; PROD_ID: RES-11931; SymbolName_1: POTENTIOMETER; LibraryName: SparkFun-Resistors; Package: SLIDER-MEDIUM; SF_SKU: COM-11621
footprint SLIDER-MEDIUM
pins: BOTTOM A, TOP E, WIPER S

## POTENTIOMETER_SLIDE-30MM-1/10W-20%-KIT
designator VR?, comment Slide Potentiometer    Slide-type potentiometers - pots that are adjusted by sliding a wiper up or down. Commonly found en-masse on sound boards. Variants  60MM  - Slide Pot - X-Large (10k Linear Taper) (COM-09119)  10k linear slide pot with 60mm travel.  Datasheet     30MM, 30MM-KIT - Slide Pot - Medium (10k Linear Taper) (COM-11621)  10k linear slide pot with 30mm travel.  Datasheet (C3031N-1A2-B10K-GP)  "KIT" variant, intended for soldering kits, has tStop removed from pads so the component can only be stuffed on one side of the board.     20MM - Slide Pot - Small (10k Linear Taper) (COM-11620)  10k linear slide pot with 20mm travel.  Datasheet (C2031N-1A2-B10K-GP)
GateName_1: G$1; DeviceName: -30MM-1/10W-20%-KIT; DeviceSetName: POTENTIOMETER_SLIDE; PROD_ID: RES-11931; SymbolName_1: POTENTIOMETER; LibraryName: SparkFun-Resistors; Package: SLIDER-MEDIUM-KIT; SF_SKU: COM-11621
footprint SLIDER-MEDIUM-KIT
pins: BOTTOM A, TOP E, WIPER S

## POTENTIOMETER_SLIDE-60MM-1/2W-20%
designator VR?, comment Slide Potentiometer    Slide-type potentiometers - pots that are adjusted by sliding a wiper up or down. Commonly found en-masse on sound boards. Variants  60MM  - Slide Pot - X-Large (10k Linear Taper) (COM-09119)  10k linear slide pot with 60mm travel.  Datasheet     30MM, 30MM-KIT - Slide Pot - Medium (10k Linear Taper) (COM-11621)  10k linear slide pot with 30mm travel.  Datasheet (C3031N-1A2-B10K-GP)  "KIT" variant, intended for soldering kits, has tStop removed from pads so the component can only be stuffed on one side of the board.     20MM - Slide Pot - Small (10k Linear Taper) (COM-11620)  10k linear slide pot with 20mm travel.  Datasheet (C2031N-1A2-B10K-GP)
GateName_1: G$1; DeviceName: -60MM-1/2W-20%; DeviceSetName: POTENTIOMETER_SLIDE; PROD_ID: RES-09484; SymbolName_1: POTENTIOMETER; LibraryName: SparkFun-Resistors; Package: SLIDER-XLARGE; SF_SKU: COM-09119
footprint SLIDER-XLARGE
pins: 1 E, 2A S, 3 A

## POTENTIOMETER_W/SWITCHPOT_PTH_SWITCH
designator VR?, comment Potentiometer (Pot) with Switch    Three-terminal potentiometers, with an adjustable wiper and two adjustable resistors. A pot can be used to create a configurable voltage divider, or as a variable resistor.   This potentiometer includes a "select" switch - actuated by pushing down on the wiper. Variants  POT-SWITCH-PTH - 16mm PTH Pot w/ Switch  Used on SparkFun FabFM Radio Kit
GateName_1: G$1; GateName_2: G$2; SymbolName_2: SWITCH-MOMENTARY; DeviceName: POT_PTH_SWITCH; DeviceSetName: POTENTIOMETER_W/SWITCH; PROD_ID: RES-11300; SymbolName_1: POTENTIOMETER; LibraryName: SparkFun-Resistors; Package: POT-SWITCH-PTH
footprint POT-SWITCH-PTH
part A pins: 1 A, 2 S, 3 E
part B pins: S1 1, S2 2

## POTENTIOMETER_W/SWITCHPOT_PTH_SWITCH_1
designator VR?, comment Potentiometer (Pot) with Switch    Three-terminal potentiometers, with an adjustable wiper and two adjustable resistors. A pot can be used to create a configurable voltage divider, or as a variable resistor.   This potentiometer includes a "select" switch - actuated by pushing down on the wiper. Variants  POT-SWITCH-PTH - 16mm PTH Pot w/ Switch  Used on SparkFun FabFM Radio Kit
GateName_1: G$1; GateName_2: G$2; SymbolName_2: SWITCH-MOMENTARY; DeviceName: POT_PTH_SWITCH; DeviceSetName: POTENTIOMETER_W/SWITCH; PROD_ID: RES-11300; SymbolName_1: POTENTIOMETER; LibraryName: SparkFun-Resistors; Package: POT-SWITCH-PTH
footprint POT-SWITCH-PTH
part A pins: 1 A, 2 S, 3 E
part B pins: S1 1, S2 2

## RESISTOR0402
designator R?, comment Generic Resistor Package
GateName_1: G$1; DeviceName: 0402; SymbolName_1: RESISTOR; LibraryName: SparkFun-Resistors; DeviceSetName: RESISTOR; Package: 0402
footprint 0402
pins: 1, 2

## RESISTOR0402T
designator R?, comment Generic Resistor Package
GateName_1: G$1; DeviceName: 0402T; SymbolName_1: RESISTOR; LibraryName: SparkFun-Resistors; DeviceSetName: RESISTOR; Package: 0402-TIGHT
footprint 0402-TIGHT
pins: 1, 2

## RESISTOR0603
designator R?, comment Generic Resistor Package
GateName_1: G$1; DeviceName: 0603; SymbolName_1: RESISTOR; LibraryName: SparkFun-Resistors; DeviceSetName: RESISTOR; Package: 0603
footprint 0603
pins: 1, 2

## RESISTOR0805
designator R?, comment Generic Resistor Package
GateName_1: G$1; DeviceName: 0805; SymbolName_1: RESISTOR; LibraryName: SparkFun-Resistors; DeviceSetName: RESISTOR; Package: 0805
footprint 0805
pins: 1, 2

## RESISTOR1206
designator R?, comment Generic Resistor Package
GateName_1: G$1; DeviceName: 1206; SymbolName_1: RESISTOR; LibraryName: SparkFun-Resistors; DeviceSetName: RESISTOR; Package: 1206
footprint 1206
pins: 1, 2

## RESISTORAXIAL-0.3
designator R?, comment Generic Resistor Package
GateName_1: G$1; DeviceName: AXIAL-0.3; SymbolName_1: RESISTOR; LibraryName: SparkFun-Resistors; DeviceSetName: RESISTOR; Package: AXIAL-0.3
footprint AXIAL-0.3
pins: P$1 1, P$2 2

## RESISTORAXIAL-0.3-KIT
designator R?, comment Generic Resistor Package
GateName_1: G$1; DeviceName: AXIAL-0.3-KIT; SymbolName_1: RESISTOR; LibraryName: SparkFun-Resistors; DeviceSetName: RESISTOR; Package: AXIAL-0.3-KIT
footprint AXIAL-0.3-KIT
pins: P$1 1, P$2 2

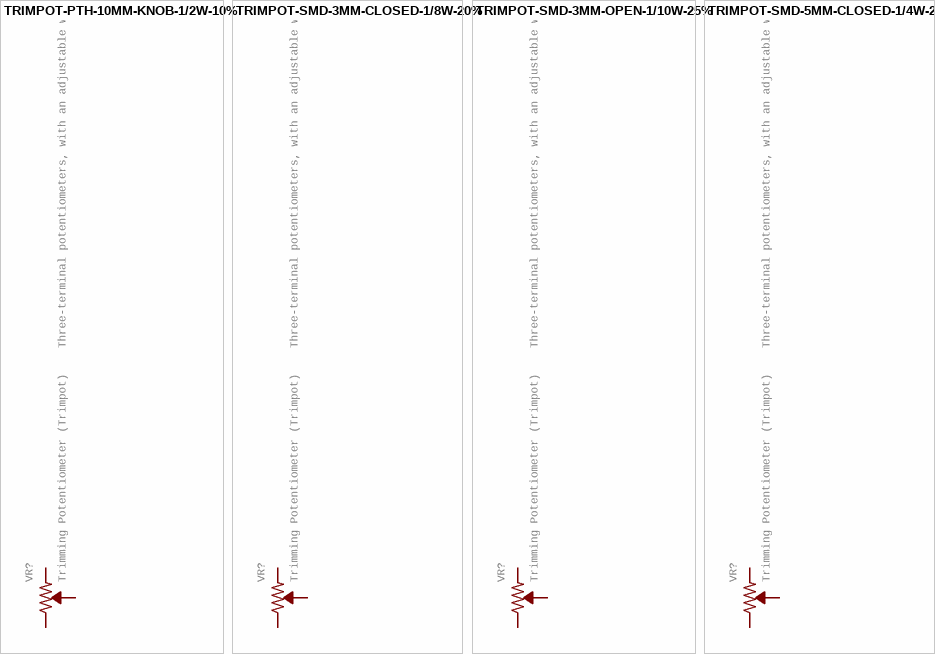
[diagram p10: symbols TRIMPOT-PTH-10MM-KNOB-1/2W-10% to TRIMPOT-SMD-5MM-CLOSED-1/4W-20%]

## TRIMPOT-PTH-10MM-KNOB-1/2W-10%
designator VR?, comment Trimming Potentiometer (Trimpot)    Three-terminal potentiometers, with an adjustable wiper and two adjustable resistors. A pot can be used to create a configurable voltage divider, or as a variable resistor.   "Trimpots" are a subset of potentiometers, usually intended for "set-and-forget" applications. They're often more delicate than standard potentiometers - rated for fewer turns. Variants  PTH-KNOB - PTH Trimpot w/ finger-adjustable knob  Trimpot 10K with Knob (COM-09806)  Datasheet    SMD-3MM-CLOSED-FRAME - SMD 3mm Square Closed-Frame Trimpot  Used on e.g. EasyDriver - Stepper Motor Driver  Datasheet (22AR10KTR)     SMD-5MM - SMD 5mm Square Closed-Frame Trimpot  Used on e.g. IOIO-OTG - V2.2  Datasheet (TS53YL502MR10)     SMD-3MM-1/10W-25% - 3mm Square Open-Frame Trimpot  Used on e.g. SparkFun Shapeoko  Datasheet (TC33X-2-103E)
GateName_1: R?; DeviceName: -PTH-10MM-KNOB-1/2W-10%; PROD_ID: RES-09730; SymbolName_1: TRIMPOT; LibraryName: SparkFun-Resistors; DeviceSetName: TRIMPOT; Package: TRIMPOT-PTH-3386U; SF_SKU: COM-09806
footprint TRIMPOT-PTH-3386U
pins: 1 CCW, 2 WIPER, 3 CW

## TRIMPOT-SMD-3MM-CLOSED-1/8W-20%
designator VR?, comment Trimming Potentiometer (Trimpot)    Three-terminal potentiometers, with an adjustable wiper and two adjustable resistors. A pot can be used to create a configurable voltage divider, or as a variable resistor.   "Trimpots" are a subset of potentiometers, usually intended for "set-and-forget" applications. They're often more delicate than standard potentiometers - rated for fewer turns. Variants  PTH-KNOB - PTH Trimpot w/ finger-adjustable knob  Trimpot 10K with Knob (COM-09806)  Datasheet    SMD-3MM-CLOSED-FRAME - SMD 3mm Square Closed-Frame Trimpot  Used on e.g. EasyDriver - Stepper Motor Driver  Datasheet (22AR10KTR)     SMD-5MM - SMD 5mm Square Closed-Frame Trimpot  Used on e.g. IOIO-OTG - V2.2  Datasheet (TS53YL502MR10)     SMD-3MM-1/10W-25% - 3mm Square Open-Frame Trimpot  Used on e.g. SparkFun Shapeoko  Datasheet (TC33X-2-103E)
GateName_1: R?; DeviceName: -SMD-3MM-CLOSED-1/8W-20%; PROD_ID: RES-09285; SymbolName_1: TRIMPOT; LibraryName: SparkFun-Resistors; DeviceSetName: TRIMPOT; Package: TRIMPOT-SMD-3MM-CLOSED
footprint TRIMPOT-SMD-3MM-CLOSED
pins: 1 CCW, 2 WIPER, 3 CW

## TRIMPOT-SMD-3MM-OPEN-1/10W-25%
designator VR?, comment Trimming Potentiometer (Trimpot)    Three-terminal potentiometers, with an adjustable wiper and two adjustable resistors. A pot can be used to create a configurable voltage divider, or as a variable resistor.   "Trimpots" are a subset of potentiometers, usually intended for "set-and-forget" applications. They're often more delicate than standard potentiometers - rated for fewer turns. Variants  PTH-KNOB - PTH Trimpot w/ finger-adjustable knob  Trimpot 10K with Knob (COM-09806)  Datasheet    SMD-3MM-CLOSED-FRAME - SMD 3mm Square Closed-Frame Trimpot  Used on e.g. EasyDriver - Stepper Motor Driver  Datasheet (22AR10KTR)     SMD-5MM - SMD 5mm Square Closed-Frame Trimpot  Used on e.g. IOIO-OTG - V2.2  Datasheet (TS53YL502MR10)     SMD-3MM-1/10W-25% - 3mm Square Open-Frame Trimpot  Used on e.g. SparkFun Shapeoko  Datasheet (TC33X-2-103E)
GateName_1: R?; DeviceName: -SMD-3MM-OPEN-1/10W-25%; PROD_ID: RES-12428, RES-08048; SymbolName_1: TRIMPOT; LibraryName: SparkFun-Resistors; DeviceSetName: TRIMPOT; Package: TRIMPOT-SMD-TC33X
footprint TRIMPOT-SMD-TC33X
pins: 1 CW, 2 WIPER, 3 CCW

## TRIMPOT-SMD-5MM-CLOSED-1/4W-20%
designator VR?, comment Trimming Potentiometer (Trimpot)    Three-terminal potentiometers, with an adjustable wiper and two adjustable resistors. A pot can be used to create a configurable voltage divider, or as a variable resistor.   "Trimpots" are a subset of potentiometers, usually intended for "set-and-forget" applications. They're often more delicate than standard potentiometers - rated for fewer turns. Variants  PTH-KNOB - PTH Trimpot w/ finger-adjustable knob  Trimpot 10K with Knob (COM-09806)  Datasheet    SMD-3MM-CLOSED-FRAME - SMD 3mm Square Closed-Frame Trimpot  Used on e.g. EasyDriver - Stepper Motor Driver  Datasheet (22AR10KTR)     SMD-5MM - SMD 5mm Square Closed-Frame Trimpot  Used on e.g. IOIO-OTG - V2.2  Datasheet (TS53YL502MR10)     SMD-3MM-1/10W-25% - 3mm Square Open-Frame Trimpot  Used on e.g. SparkFun Shapeoko  Datasheet (TC33X-2-103E)
GateName_1: R?; DeviceName: -SMD-5MM-CLOSED-1/4W-20%; PROD_ID: RES-11156; SymbolName_1: TRIMPOT; LibraryName: SparkFun-Resistors; DeviceSetName: TRIMPOT; Package: TRIMPOT-SMD-5MM
footprint TRIMPOT-SMD-5MM
pins: A CCW, B WIPER, C CW